# Altium footprint library TQFP.PcbLib: 2 footprints
Each footprint in its own frame and in the unit in brackets; x right, y up, seen from the top. Pads: shape width x height; smd on the part's side, far side on the other; paste and mask are expansions set on the pad; w line width, h text height; cw(c..) or ccw(c..) is an arc to the next point about the centre after c.
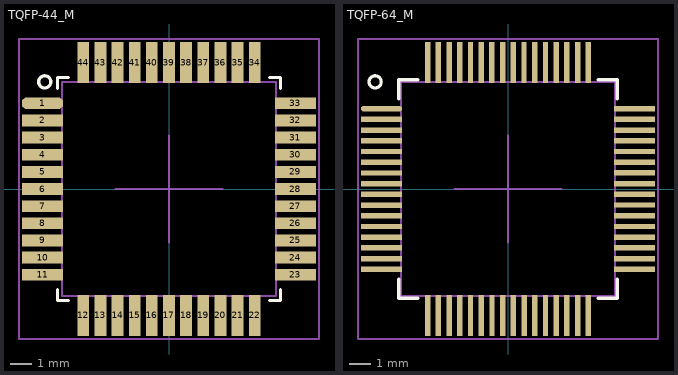
[diagram p0: the footprints below, top view; thin cyan lines are the x and y axes]

## TQFP-44_M [mm] "TQFP, 44-Leads, Body 10x10x1mm, Pitch 0.8mm, Lead Span 12mm, IPC Low Density"
height 1.2
pads (44):
  oct 1.9x0.55 smd paste-0.012 mask+0.075: 1(-5.9,4)
  rect 1.9x0.55 smd paste-0.012 mask+0.075: 2(-5.9,3.2) 3(-5.9,2.4) 4(-5.9,1.6) 5(-5.9,0.8) 6(-5.9,0) 7(-5.9,-0.8) 8(-5.9,-1.6) 9(-5.9,-2.4) 10(-5.9,-3.2) 11(-5.9,-4) 23(5.9,-4) 24(5.9,-3.2) 25(5.9,-2.4) 26(5.9,-1.6) 27(5.9,-0.8) 28(5.9,0) 29(5.9,0.8) 30(5.9,1.6) 31(5.9,2.4) 32(5.9,3.2) 33(5.9,4)
  rect 0.55x1.9 smd paste-0.012 mask+0.075: 12(-4,-5.9) 13(-3.2,-5.9) 14(-2.4,-5.9) 15(-1.6,-5.9) 16(-0.8,-5.9) 17(0,-5.9) 18(0.8,-5.9) 19(1.6,-5.9) 20(2.4,-5.9) 21(3.2,-5.9) 22(4,-5.9) 34(4,5.9) 35(3.2,5.9) 36(2.4,5.9) 37(1.6,5.9) 38(0.8,5.9) 39(0,5.9) 40(-0.8,5.9) 41(-1.6,5.9) 42(-2.4,5.9) 43(-3.2,5.9) 44(-4,5.9)
Top Overlay:
  circle w0.15: c-5.8,5 r0.283
  lines w0.15: -5.2,-4.7 -5.2,-5.2 -4.7,-5.2 ; -5.2,4.7 -5.2,5.2 -4.7,5.2 ; 4.7,-5.2 5.2,-5.2 5.2,-4.7 ; 4.7,5.2 5.2,5.2 5.2,4.7
Mechanical 13:
  lines w0.1: -5,-5 5,-5 5,5 -5,5 -5,-5
Mechanical 15:
  lines w0.1: -2.5,0 2.5,0 ; 0,-2.5 0,2.5 ; -7,-7 -7,7 7,7 7,-7 -7,-7
3D body: height 1.2, standoff 0.1, extent -5,-5 5,5

## TQFP-64_M [mm] "TQFP, 44-Leads, Body 10x10x1.2mm, Pitch 0.5mm, Lead Span 12mm, IPC Low Density"
height 1.2
pads (64):
  oct 1.9x0.25 smd paste-0.025 mask+0.075: 1(-5.9,3.75)
  rect 1.9x0.25 smd paste-0.025 mask+0.075: 2(-5.9,3.25) 3(-5.9,2.75) 4(-5.9,2.25) 5(-5.9,1.75) 6(-5.9,1.25) 7(-5.9,0.75) 8(-5.9,0.25) 9(-5.9,-0.25) 10(-5.9,-0.75) 11(-5.9,-1.25) 12(-5.9,-1.75) 13(-5.9,-2.25) 14(-5.9,-2.75) 15(-5.9,-3.25) 16(-5.9,-3.75) 33(5.9,-3.75) 34(5.9,-3.25) 35(5.9,-2.75) 36(5.9,-2.25) 37(5.9,-1.75) 38(5.9,-1.25) 39(5.9,-0.75) 40(5.9,-0.25) 41(5.9,0.25) 42(5.9,0.75) 43(5.9,1.25) 44(5.9,1.75) 45(5.9,2.25) 46(5.9,2.75) 47(5.9,3.25) 48(5.9,3.75)
  rect 0.25x1.9 smd paste-0.025 mask+0.075: 17(-3.75,-5.9) 18(-3.25,-5.9) 19(-2.75,-5.9) 20(-2.25,-5.9) 21(-1.75,-5.9) 22(-1.25,-5.9) 23(-0.75,-5.9) 24(-0.25,-5.9) 25(0.25,-5.9) 26(0.75,-5.9) 27(1.25,-5.9) 28(1.75,-5.9) 29(2.25,-5.9) 30(2.75,-5.9) 31(3.25,-5.9) 32(3.75,-5.9) 49(3.75,5.9) 50(3.25,5.9) 51(2.75,5.9) 52(2.25,5.9) 53(1.75,5.9) 54(1.25,5.9) 55(0.75,5.9) 56(0.25,5.9) 57(-0.25,5.9) 58(-0.75,5.9) 59(-1.25,5.9) 60(-1.75,5.9) 61(-2.25,5.9) 62(-2.75,5.9) 63(-3.25,5.9) 64(-3.75,5.9)
Top Overlay:
  circle w0.15: c-6.2,5 r0.283
  lines w0.15: -5.1,-4.2 -5.1,-5.1 -4.2,-5.1 ; -5.1,4.2 -5.1,5.1 -4.2,5.1 ; 4.2,-5.1 5.1,-5.1 5.1,-4.2 ; 4.2,5.1 5.1,5.1 5.1,4.2
Mechanical 13:
  lines w0.1: -5,-5 -5,5 5,5 5,-5 -5,-5
Mechanical 15:
  lines w0.1: -2.5,0 2.5,0 ; 0,-2.5 0,2.5 ; -7,-7 -7,7 7,7 7,-7 -7,-7
3D body: height 1.2, standoff 0.1, extent -5,-5 5,5